# Altium integrated library Atmel Xmega microcontrollers.IntLib: 1 symbol
Pins are listed as number, name and electrical type; pins without a type are passive.

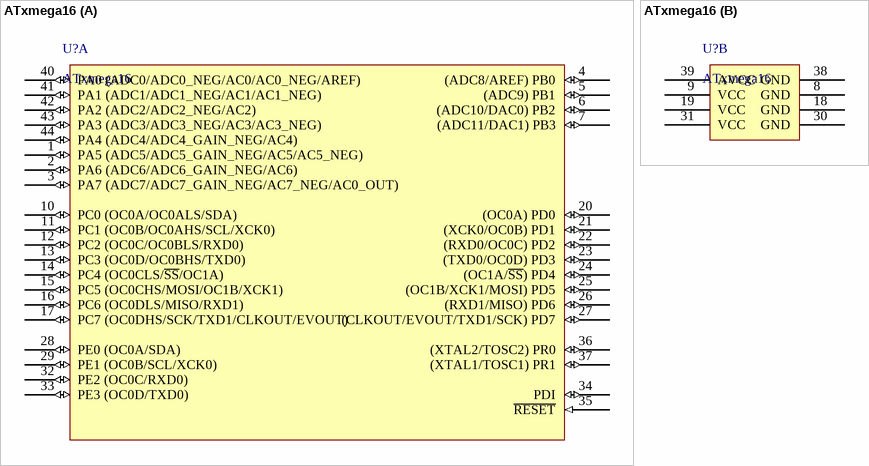
[diagram p0: symbol ATxmega16]

## ATxmega16
designator U?
8-Bit AVR XMEGA Microcontroller with 16K Bytes of In-System Programmable Flash Memory
footprint 44A_L (44-Pin Thin Quad Flat Pack 0.8 mm Pitch, IPC High Density)
footprint 44A_M (44-Pin Thin Quad Flat Pack 0.8 mm Pitch, IPC Low Density)
footprint 44A_N (44-Pin Thin Quad Flat Pack 0.8 mm Pitch, IPC Medium Density)
part A pins: 1 PA5 (ADC5/ADC5_GAIN_NEG/AC5/AC5_NEG) (io), 2 PA6 (ADC6/ADC6_GAIN_NEG/AC6) (io), 3 PA7 (ADC7/ADC7_GAIN_NEG/AC7_NEG/AC0_OUT) (io), 4 (ADC8/AREF) PB0 (io), 5 (ADC9) PB1 (io), 6 (ADC10/DAC0) PB2 (io), 7 (ADC11/DAC1) PB3 (io), 10 PC0 (OC0A/OC0ALS/SDA) (io), 11 PC1 (OC0B/OC0AHS/SCL/XCK0) (io), 12 PC2 (OC0C/OC0BLS/RXD0) (io), 13 PC3 (OC0D/OC0BHS/TXD0) (io), 14 PC4 (OC0CLS/~{SS}/OC1A) (io), 15 PC5 (OC0CHS/MOSI/OC1B/XCK1) (io), 16 PC6 (OC0DLS/MISO/RXD1) (io), 17 PC7 (OC0DHS/SCK/TXD1/CLKOUT/EVOUT) (io), 20 (OC0A) PD0 (io), 21 (XCK0/OC0B) PD1 (io), 22 (RXD0/OC0C) PD2 (io), 23 (TXD0/OC0D) PD3 (io), 24 (OC1A/~{SS}) PD4 (io), 25 (OC1B/XCK1/MOSI) PD5 (io), 26 (RXD1/MISO) PD6 (io), 27 (CLKOUT/EVOUT/TXD1/SCK) PD7 (io), 28 PE0 (OC0A/SDA) (io), 29 PE1 (OC0B/SCL/XCK0) (io), 32 PE2 (OC0C/RXD0) (io), 33 PE3 (OC0D/TXD0) (io), 34 PDI (io), 35 ~{RESET} (in), 36 (XTAL2/TOSC2) PR0 (io), 37 (XTAL1/TOSC1) PR1 (io), 40 PA0 (ADC0/ADC0_NEG/AC0/AC0_NEG/AREF) (io), 41 PA1 (ADC1/ADC1_NEG/AC1/AC1_NEG) (io), 42 PA2 (ADC2/ADC2_NEG/AC2) (io), 43 PA3 (ADC3/ADC3_NEG/AC3/AC3_NEG) (io), 44 PA4 (ADC4/ADC4_GAIN_NEG/AC4) (io)
part B pins: 8 GND, 9 VCC, 18 GND, 19 VCC, 30 GND, 31 VCC, 38 GND, 39 AVCC